# Altium schematic symbol library 100SP1T1B4M2QE.SchLib: 1 symbol
Pins are listed as number, name and electrical type; pins without a type are passive.

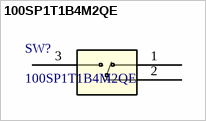
[diagram p0: symbol 100SP1T1B4M2QE]

## 100SP1T1B4M2QE
designator SW?
Description; Manufacturer_Name: E-Switch; Type: Toggle Switches; Copyright: Copyright (C) 2025 Ultra Librarian. All rights reserved.; Manufacturer_Part_Number: 100SP1T1B4M2QE; RefDes: RefDes
footprint 100SP1T1_EWI
pins: 1, 2, 3